# EAGLE library part ATMEGA16U4-AU (library tcddk)
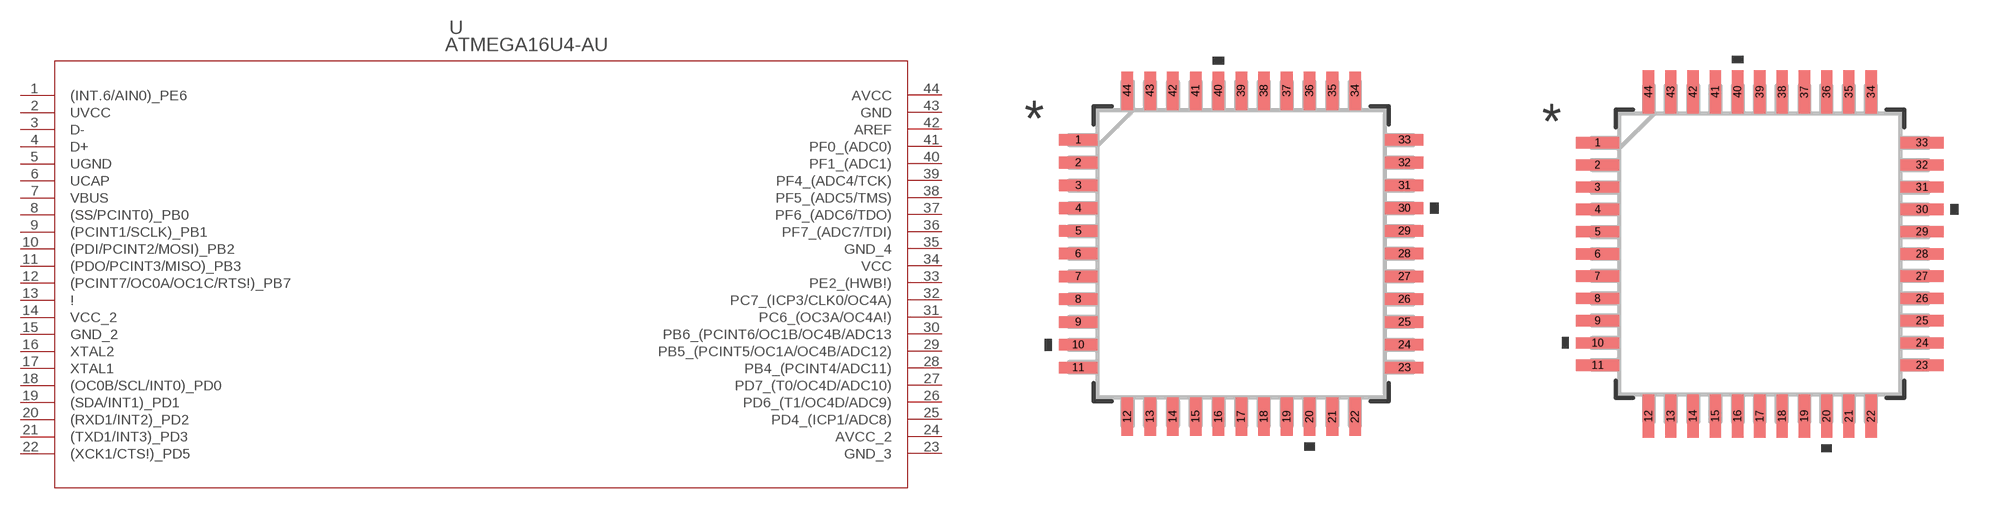
[diagram p1: symbol with the pads of 44ML_ATM; footprints 44ML_ATM, 44ML_ATM-M]

Designator prefix U

## ATMEGA16U4-AU (BUILT_BY: EMA_UL_Team; MANUFACTURER_PART_NUMBER: ATMEGA16U4-AU; SOURCELIBRARY: Atmel_2011-04-02; VENDOR: Atmel)  [44ML_ATM]
1  (INT.6/AIN0)_PE6
2  UVCC  pwr
3  D-  pas
4  D+  pas
5  UGND  pwr
6  UCAP  pwr
7  VBUS  pwr
8  (SS/PCINT0)_PB0
9  (PCINT1/SCLK)_PB1
10  (PDI/PCINT2/MOSI)_PB2
11  (PDO/PCINT3/MISO)_PB3
12  (PCINT7/OC0A/OC1C/RTS!)_PB7
13  !  in
14  VCC_2  pwr
15  GND_2  pwr
16  XTAL2  out
17  XTAL1  in
18  (OC0B/SCL/INT0)_PD0
19  (SDA/INT1)_PD1
20  (RXD1/INT2)_PD2
21  (TXD1/INT3)_PD3
22  (XCK1/CTS!)_PD5
23  GND_3  pwr
24  AVCC_2  pwr
25  PD4_(ICP1/ADC8)
26  PD6_(T1/OC4D/ADC9)
27  PD7_(T0/OC4D/ADC10)
28  PB4_(PCINT4/ADC11)
29  PB5_(PCINT5/OC1A/OC4B/ADC12)
30  PB6_(PCINT6/OC1B/OC4B/ADC13
31  PC6_(OC3A/OC4A!)
32  PC7_(ICP3/CLK0/OC4A)
33  PE2_(HWB!)
34  VCC  pwr
35  GND_4  pwr
36  PF7_(ADC7/TDI)
37  PF6_(ADC6/TDO)
38  PF5_(ADC5/TMS)
39  PF4_(ADC4/TCK)
40  PF1_(ADC1)
41  PF0_(ADC0)
42  AREF  pas
43  GND  pwr
44  AVCC  pwr

## ATMEGA16U4-AU44ML_ATM-M (BUILT_BY: EMA_UL_Team; MANUFACTURER_PART_NUMBER: ATMEGA16U4-AU; SOURCELIBRARY: Atmel_2011-04-02; VENDOR: Atmel)  [44ML_ATM-M]
Pads as for 44ML_ATM

## ATMEGA16U4-AU44ML_ATM-L (BUILT_BY: EMA_UL_Team; MANUFACTURER_PART_NUMBER: ATMEGA16U4-AU; SOURCELIBRARY: Atmel_2011-04-02; VENDOR: Atmel)  [44ML_ATM-L]
Pads as for 44ML_ATM

## Footprint 44ML_ATM (pad centres in mm)
smd 1.346 x 0.406: 1 -5.728,4; 2 -5.728,3.2; 3 -5.728,2.4; 4 -5.728,1.6; 5 -5.728,0.8; 6 -5.728,0; 7 -5.728,-0.8; 8 -5.728,-1.6; 9 -5.728,-2.4; 10 -5.728,-3.2; 11 -5.728,-4; 23 5.728,-4; 24 5.728,-3.2; 25 5.728,-2.4; 26 5.728,-1.6; 27 5.728,-0.8; 28 5.728,0; 29 5.728,0.8; 30 5.728,1.6; 31 5.728,2.4; 32 5.728,3.2; 33 5.728,4
smd 0.406 x 1.346: 12 -4,-5.728; 13 -3.2,-5.728; 14 -2.4,-5.728; 15 -1.6,-5.728; 16 -0.8,-5.728; 17 0,-5.728; 18 0.8,-5.728; 19 1.6,-5.728; 20 2.4,-5.728; 21 3.2,-5.728; 22 4,-5.728; 34 4,5.728; 35 3.2,5.728; 36 2.4,5.728; 37 1.6,5.728; 38 0.8,5.728; 39 0,5.728; 40 -0.8,5.728; 41 -1.6,5.728; 42 -2.4,5.728; 43 -3.2,5.728; 44 -4,5.728

## Footprint 44ML_ATM-M (pad centres in mm)
smd 1.549 x 0.406: 1 -5.829,4; 2 -5.829,3.2; 3 -5.829,2.4; 4 -5.829,1.6; 5 -5.829,0.8; 6 -5.829,0; 7 -5.829,-0.8; 8 -5.829,-1.6; 9 -5.829,-2.4; 10 -5.829,-3.2; 11 -5.829,-4; 23 5.829,-4; 24 5.829,-3.2; 25 5.829,-2.4; 26 5.829,-1.6; 27 5.829,-0.8; 28 5.829,0; 29 5.829,0.8; 30 5.829,1.6; 31 5.829,2.4; 32 5.829,3.2; 33 5.829,4
smd 0.406 x 1.549: 12 -4,-5.829; 13 -3.2,-5.829; 14 -2.4,-5.829; 15 -1.6,-5.829; 16 -0.8,-5.829; 17 0,-5.829; 18 0.8,-5.829; 19 1.6,-5.829; 20 2.4,-5.829; 21 3.2,-5.829; 22 4,-5.829; 34 4,5.829; 35 3.2,5.829; 36 2.4,5.829; 37 1.6,5.829; 38 0.8,5.829; 39 0,5.829; 40 -0.8,5.829; 41 -1.6,5.829; 42 -2.4,5.829; 43 -3.2,5.829; 44 -4,5.829

## Footprint 44ML_ATM-L (pad centres in mm)
smd 1.143 x 0.356: 1 -5.626,4; 2 -5.626,3.2; 3 -5.626,2.4; 4 -5.626,1.6; 5 -5.626,0.8; 6 -5.626,0; 7 -5.626,-0.8; 8 -5.626,-1.6; 9 -5.626,-2.4; 10 -5.626,-3.2; 11 -5.626,-4; 23 5.626,-4; 24 5.626,-3.2; 25 5.626,-2.4; 26 5.626,-1.6; 27 5.626,-0.8; 28 5.626,0; 29 5.626,0.8; 30 5.626,1.6; 31 5.626,2.4; 32 5.626,3.2; 33 5.626,4
smd 0.356 x 1.143: 12 -4,-5.626; 13 -3.2,-5.626; 14 -2.4,-5.626; 15 -1.6,-5.626; 16 -0.8,-5.626; 17 0,-5.626; 18 0.8,-5.626; 19 1.6,-5.626; 20 2.4,-5.626; 21 3.2,-5.626; 22 4,-5.626; 34 4,5.626; 35 3.2,5.626; 36 2.4,5.626; 37 1.6,5.626; 38 0.8,5.626; 39 0,5.626; 40 -0.8,5.626; 41 -1.6,5.626; 42 -2.4,5.626; 43 -3.2,5.626; 44 -4,5.626